# Altium integrated library Silicon Labs Isolation and Power.IntLib: 421 symbols (part 14 of 19)
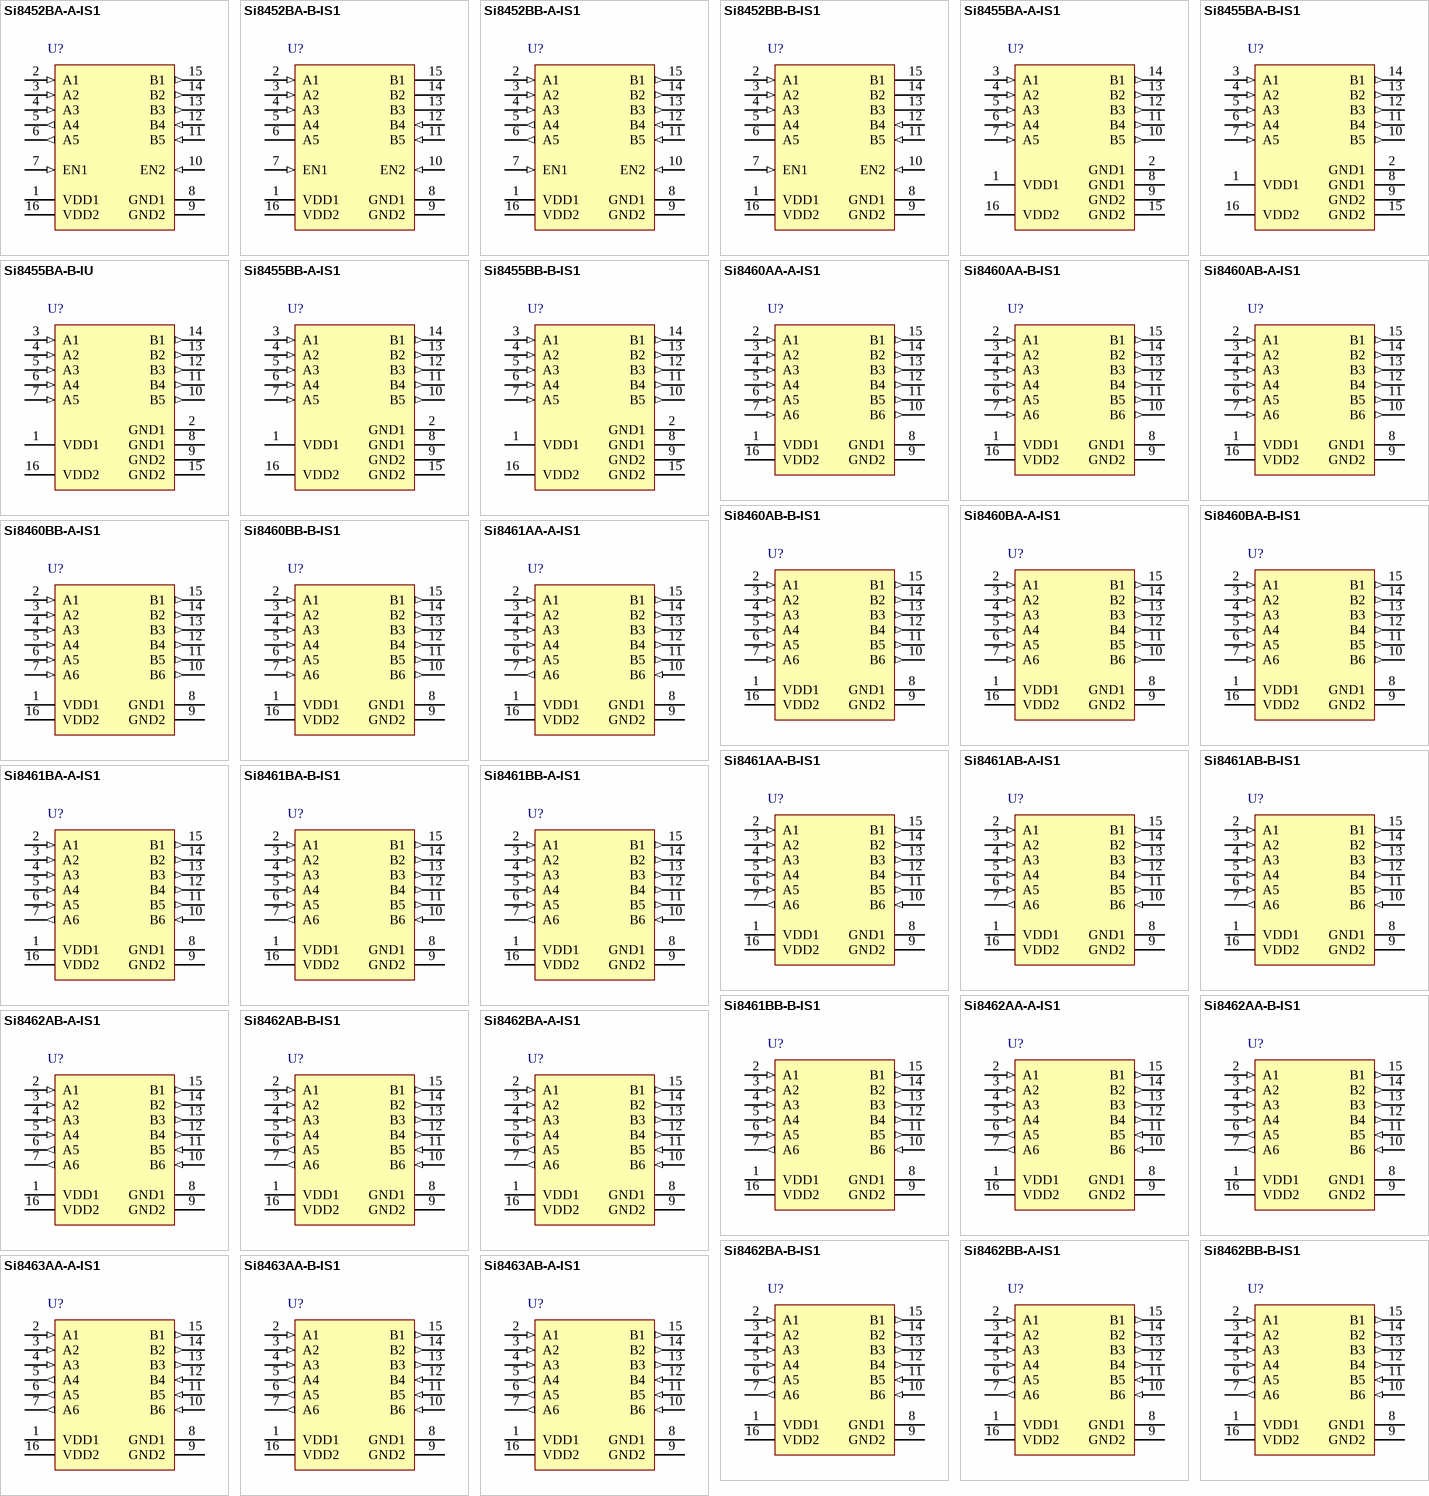
[diagram p27: symbols Si8452BA-A-IS1 to Si8463AB-A-IS1]

## Si8462BA-A-IS1
designator U?
Low Power Six-Channel Digital Isolator, 150 Mbps, 1 kVRMS Isolation Rating, -40 to 125 degC, 16-pin SOIC; Manufacturer: Silicon Labs; PartNumber: Si8462BA-A-IS1; 10kV surge: FALSE; Channel Type: Unidirectional; Isolation Rating (kV): 1; Maximum Data Rate (Mbps): 150; Maximum Propagation Delay (ns): 9.5; Sub-Family: Isolators; DatasheetVersion: Rev. 1.4; PackageReference: SOIC-16-NB; PackageDescription: 16-Pin Small-Outline Integrated Circuit, Body 9.9 x 3.9 mm, Pitch 1.27 mm; Supplier 1: Digi-Key; Supplier Part Number 1: SI8462BA-A-IS1-ND; AEC-Q100: FALSE; Enable Control: FALSE; Mounting Technology: Surface Mount; Code_JEDEC: MS-012; Code_IPC: J-STD-020; ComponentLink1Description: Manufacturer URL; ComponentLink1URL: http://www.silabs.com/; ComponentLink2Description: Datasheet; ComponentLink2URL: http://www.silabs.com/Support%20Documents/TechnicalDocs/Si846x.pdf; ComponentLink3Description: Package Specification; ComponentLink3URL: http://www.silabs.com/Support%20Documents/TechnicalDocs/si2401.pdf
footprint SLAB-SOIC-16-NB_N (SOIC, 16-Leads, Body 9.9x3.9mm, Pitch 1.27mm, IPC Medium Density)
footprint SLAB-SOIC-16-NB_L (SOIC, 16-Leads, Body 9.9x3.9mm, Pitch 1.27mm, IPC High Density)
footprint SLAB-SOIC-16-NB_M (SOIC, 16-Leads, Body 9.9x3.9mm, Pitch 1.27mm, IPC Low Density)
pins: 1 VDD1 (power) "Side 1 power supply.", 2 A1 (in) "Side 1 digital input.", 3 A2 (in) "Side 1 digital input.", 4 A3 (in) "Side 1 digital input.", 5 A4 (in) "Side 1 digital input.", 6 A5 (out) "Side 1 digital output.", 7 A6 (out) "Side 1 digital output.", 8 GND1 (power) "Side 1 ground.", 9 GND2 (power) "Side 2 ground.", 10 B6 (in) "Side 2 digital input.", 11 B5 (in) "Side 2 digital input.", 12 B4 (out) "Side 2 digital output.", 13 B3 (out) "Side 2 digital output.", 14 B2 (out) "Side 2 digital output.", 15 B1 (out) "Side 2 digital output.", 16 VDD2 (power) "Side 2 power supply."

## Si8462BA-B-IS1
designator U?
Low Power Six-Channel Digital Isolator, 150 Mbps, 1 kVRMS Isolation Rating, -40 to 125 degC, 16-pin SOIC; Manufacturer: Silicon Labs; PartNumber: Si8462BA-B-IS1; 10kV surge: FALSE; Channel Type: Unidirectional; Isolation Rating (kV): 1; Maximum Data Rate (Mbps): 150; Maximum Propagation Delay (ns): 9.5; Sub-Family: Isolators; DatasheetVersion: Rev. 1.4; PackageReference: SOIC-16-NB; PackageDescription: 16-Pin Small-Outline Integrated Circuit, Body 9.9 x 3.9 mm, Pitch 1.27 mm; Supplier 1: Digi-Key; Supplier Part Number 1: SI8462BA-B-IS1-ND; Supplier 2: Mouser; Supplier Part Number 2: 634-SI8462BA-B-IS1; AEC-Q100: FALSE; Enable Control: FALSE; Mounting Technology: Surface Mount; Code_JEDEC: MS-012; Code_IPC: J-STD-020; ComponentLink1Description: Manufacturer URL; ComponentLink1URL: http://www.silabs.com/; ComponentLink2Description: Datasheet; ComponentLink2URL: http://www.silabs.com/Support%20Documents/TechnicalDocs/Si846x.pdf; ComponentLink3Description: Package Specification; ComponentLink3URL: http://www.silabs.com/Support%20Documents/TechnicalDocs/si2401.pdf
footprint SLAB-SOIC-16-NB_N (SOIC, 16-Leads, Body 9.9x3.9mm, Pitch 1.27mm, IPC Medium Density)
footprint SLAB-SOIC-16-NB_L (SOIC, 16-Leads, Body 9.9x3.9mm, Pitch 1.27mm, IPC High Density)
footprint SLAB-SOIC-16-NB_M (SOIC, 16-Leads, Body 9.9x3.9mm, Pitch 1.27mm, IPC Low Density)
pins: 1 VDD1 (power) "Side 1 power supply.", 2 A1 (in) "Side 1 digital input.", 3 A2 (in) "Side 1 digital input.", 4 A3 (in) "Side 1 digital input.", 5 A4 (in) "Side 1 digital input.", 6 A5 (out) "Side 1 digital output.", 7 A6 (out) "Side 1 digital output.", 8 GND1 (power) "Side 1 ground.", 9 GND2 (power) "Side 2 ground.", 10 B6 (in) "Side 2 digital input.", 11 B5 (in) "Side 2 digital input.", 12 B4 (out) "Side 2 digital output.", 13 B3 (out) "Side 2 digital output.", 14 B2 (out) "Side 2 digital output.", 15 B1 (out) "Side 2 digital output.", 16 VDD2 (power) "Side 2 power supply."

## Si8462BB-A-IS1
designator U?
Low Power Six-Channel Digital Isolator, 150 Mbps, 2.5 kVRMS Isolation Rating, -40 to 125 degC, 16-pin SOIC; Manufacturer: Silicon Labs; PartNumber: Si8462BB-A-IS1; 10kV surge: FALSE; Channel Type: Unidirectional; Isolation Rating (kV): 2.5; Maximum Data Rate (Mbps): 150; Maximum Propagation Delay (ns): 9.5; Sub-Family: Isolators; DatasheetVersion: Rev. 1.4; PackageReference: SOIC-16-NB; PackageDescription: 16-Pin Small-Outline Integrated Circuit, Body 9.9 x 3.9 mm, Pitch 1.27 mm; Supplier 1: Digi-Key; Supplier Part Number 1: SI8462BB-A-IS1-ND; AEC-Q100: FALSE; Enable Control: FALSE; Mounting Technology: Surface Mount; Code_JEDEC: MS-012; Code_IPC: J-STD-020; ComponentLink1Description: Manufacturer URL; ComponentLink1URL: http://www.silabs.com/; ComponentLink2Description: Datasheet; ComponentLink2URL: http://www.silabs.com/Support%20Documents/TechnicalDocs/Si846x.pdf; ComponentLink3Description: Package Specification; ComponentLink3URL: http://www.silabs.com/Support%20Documents/TechnicalDocs/si2401.pdf
footprint SLAB-SOIC-16-NB_N (SOIC, 16-Leads, Body 9.9x3.9mm, Pitch 1.27mm, IPC Medium Density)
footprint SLAB-SOIC-16-NB_L (SOIC, 16-Leads, Body 9.9x3.9mm, Pitch 1.27mm, IPC High Density)
footprint SLAB-SOIC-16-NB_M (SOIC, 16-Leads, Body 9.9x3.9mm, Pitch 1.27mm, IPC Low Density)
pins: 1 VDD1 (power) "Side 1 power supply.", 2 A1 (in) "Side 1 digital input.", 3 A2 (in) "Side 1 digital input.", 4 A3 (in) "Side 1 digital input.", 5 A4 (in) "Side 1 digital input.", 6 A5 (out) "Side 1 digital output.", 7 A6 (out) "Side 1 digital output.", 8 GND1 (power) "Side 1 ground.", 9 GND2 (power) "Side 2 ground.", 10 B6 (in) "Side 2 digital input.", 11 B5 (in) "Side 2 digital input.", 12 B4 (out) "Side 2 digital output.", 13 B3 (out) "Side 2 digital output.", 14 B2 (out) "Side 2 digital output.", 15 B1 (out) "Side 2 digital output.", 16 VDD2 (power) "Side 2 power supply."

## Si8462BB-B-IS1
designator U?
Low Power Six-Channel Digital Isolator, 150 Mbps, 2.5 kVRMS Isolation Rating, -40 to 125 degC, 16-pin SOIC; Manufacturer: Silicon Labs; PartNumber: Si8462BB-B-IS1; 10kV surge: FALSE; Channel Type: Unidirectional; Isolation Rating (kV): 2.5; Maximum Data Rate (Mbps): 150; Maximum Propagation Delay (ns): 9.5; Sub-Family: Isolators; DatasheetVersion: Rev. 1.4; PackageReference: SOIC-16-NB; PackageDescription: 16-Pin Small-Outline Integrated Circuit, Body 9.9 x 3.9 mm, Pitch 1.27 mm; Supplier 1: Digi-Key; Supplier Part Number 1: SI8462BB-B-IS1-ND; Supplier 2: Mouser; Supplier Part Number 2: 634-SI8462BB-B-IS1; AEC-Q100: FALSE; Enable Control: FALSE; Mounting Technology: Surface Mount; Code_JEDEC: MS-012; Code_IPC: J-STD-020; ComponentLink1Description: Manufacturer URL; ComponentLink1URL: http://www.silabs.com/; ComponentLink2Description: Datasheet; ComponentLink2URL: http://www.silabs.com/Support%20Documents/TechnicalDocs/Si846x.pdf; ComponentLink3Description: Package Specification; ComponentLink3URL: http://www.silabs.com/Support%20Documents/TechnicalDocs/si2401.pdf
footprint SLAB-SOIC-16-NB_N (SOIC, 16-Leads, Body 9.9x3.9mm, Pitch 1.27mm, IPC Medium Density)
footprint SLAB-SOIC-16-NB_L (SOIC, 16-Leads, Body 9.9x3.9mm, Pitch 1.27mm, IPC High Density)
footprint SLAB-SOIC-16-NB_M (SOIC, 16-Leads, Body 9.9x3.9mm, Pitch 1.27mm, IPC Low Density)
pins: 1 VDD1 (power) "Side 1 power supply.", 2 A1 (in) "Side 1 digital input.", 3 A2 (in) "Side 1 digital input.", 4 A3 (in) "Side 1 digital input.", 5 A4 (in) "Side 1 digital input.", 6 A5 (out) "Side 1 digital output.", 7 A6 (out) "Side 1 digital output.", 8 GND1 (power) "Side 1 ground.", 9 GND2 (power) "Side 2 ground.", 10 B6 (in) "Side 2 digital input.", 11 B5 (in) "Side 2 digital input.", 12 B4 (out) "Side 2 digital output.", 13 B3 (out) "Side 2 digital output.", 14 B2 (out) "Side 2 digital output.", 15 B1 (out) "Side 2 digital output.", 16 VDD2 (power) "Side 2 power supply."

## Si8463AA-A-IS1
designator U?
Low Power Six-Channel Digital Isolator, 1 Mbps, 1 kVRMS Isolation Rating, -40 to 125 degC, 16-pin SOIC; Manufacturer: Silicon Labs; PartNumber: Si8463AA-A-IS1; 10kV surge: FALSE; Channel Type: Unidirectional; Isolation Rating (kV): 1; Maximum Propagation Delay (ns): 35; Sub-Family: Isolators; DatasheetVersion: Rev. 1.4; PackageReference: SOIC-16-NB; PackageDescription: 16-Pin Small-Outline Integrated Circuit, Body 9.9 x 3.9 mm, Pitch 1.27 mm; Supplier 1: Digi-Key; Supplier Part Number 1: SI8463AA-A-IS1-ND; AEC-Q100: FALSE; Enable Control: FALSE; Maximum Data Rate (Mbps): 1; Mounting Technology: Surface Mount; Code_JEDEC: MS-012; Code_IPC: J-STD-020; ComponentLink1Description: Manufacturer URL; ComponentLink1URL: http://www.silabs.com/; ComponentLink2Description: Datasheet; ComponentLink2URL: http://www.silabs.com/Support%20Documents/TechnicalDocs/Si846x.pdf; ComponentLink3Description: Package Specification; ComponentLink3URL: http://www.silabs.com/Support%20Documents/TechnicalDocs/si2401.pdf
footprint SLAB-SOIC-16-NB_N (SOIC, 16-Leads, Body 9.9x3.9mm, Pitch 1.27mm, IPC Medium Density)
footprint SLAB-SOIC-16-NB_L (SOIC, 16-Leads, Body 9.9x3.9mm, Pitch 1.27mm, IPC High Density)
footprint SLAB-SOIC-16-NB_M (SOIC, 16-Leads, Body 9.9x3.9mm, Pitch 1.27mm, IPC Low Density)
pins: 1 VDD1 (power) "Side 1 power supply.", 2 A1 (in) "Side 1 digital input.", 3 A2 (in) "Side 1 digital input.", 4 A3 (in) "Side 1 digital input.", 5 A4 (out) "Side 1 digital output.", 6 A5 (out) "Side 1 digital output.", 7 A6 (out) "Side 1 digital output.", 8 GND1 (power) "Side 1 ground.", 9 GND2 (power) "Side 2 ground.", 10 B6 (in), 11 B5 (in), 12 B4 (in), 13 B3 (out) "Side 2 digital output.", 14 B2 (out) "Side 2 digital output.", 15 B1 (out) "Side 2 digital output.", 16 VDD2 (power) "Side 2 power supply."

## Si8463AA-B-IS1
designator U?
Low Power Six-Channel Digital Isolator, 1 Mbps, 1 kVRMS Isolation Rating, -40 to 125 degC, 16-pin SOIC; Manufacturer: Silicon Labs; PartNumber: Si8463AA-B-IS1; 10kV surge: FALSE; Channel Type: Unidirectional; Isolation Rating (kV): 1; Maximum Propagation Delay (ns): 35; Sub-Family: Isolators; DatasheetVersion: Rev. 1.4; PackageReference: SOIC-16-NB; PackageDescription: 16-Pin Small-Outline Integrated Circuit, Body 9.9 x 3.9 mm, Pitch 1.27 mm; Supplier 1: Digi-Key; Supplier Part Number 1: SI8463AA-B-IS1-ND; Supplier 2: Mouser; Supplier Part Number 2: 634-SI8463AA-B-IS1; AEC-Q100: FALSE; Enable Control: FALSE; Maximum Data Rate (Mbps): 1; Mounting Technology: Surface Mount; Code_JEDEC: MS-012; Code_IPC: J-STD-020; ComponentLink1Description: Manufacturer URL; ComponentLink1URL: http://www.silabs.com/; ComponentLink2Description: Datasheet; ComponentLink2URL: http://www.silabs.com/Support%20Documents/TechnicalDocs/Si846x.pdf; ComponentLink3Description: Package Specification; ComponentLink3URL: http://www.silabs.com/Support%20Documents/TechnicalDocs/si2401.pdf
footprint SLAB-SOIC-16-NB_N (SOIC, 16-Leads, Body 9.9x3.9mm, Pitch 1.27mm, IPC Medium Density)
footprint SLAB-SOIC-16-NB_L (SOIC, 16-Leads, Body 9.9x3.9mm, Pitch 1.27mm, IPC High Density)
footprint SLAB-SOIC-16-NB_M (SOIC, 16-Leads, Body 9.9x3.9mm, Pitch 1.27mm, IPC Low Density)
pins: 1 VDD1 (power) "Side 1 power supply.", 2 A1 (in) "Side 1 digital input.", 3 A2 (in) "Side 1 digital input.", 4 A3 (in) "Side 1 digital input.", 5 A4 (out) "Side 1 digital output.", 6 A5 (out) "Side 1 digital output.", 7 A6 (out) "Side 1 digital output.", 8 GND1 (power) "Side 1 ground.", 9 GND2 (power) "Side 2 ground.", 10 B6 (in), 11 B5 (in), 12 B4 (in), 13 B3 (out) "Side 2 digital output.", 14 B2 (out) "Side 2 digital output.", 15 B1 (out) "Side 2 digital output.", 16 VDD2 (power) "Side 2 power supply."

## Si8463AB-A-IS1
designator U?
Low Power Six-Channel Digital Isolator, 1 Mbps, 2.5 kVRMS Isolation Rating, -40 to 125 degC, 16-pin SOIC; Manufacturer: Silicon Labs; PartNumber: Si8463AB-A-IS1; 10kV surge: FALSE; Channel Type: Unidirectional; Isolation Rating (kV): 2.5; Maximum Data Rate (Mbps): 1; Maximum Propagation Delay (ns): 35; Sub-Family: Isolators; DatasheetVersion: Rev. 1.4; PackageReference: SOIC-16-NB; PackageDescription: 16-Pin Small-Outline Integrated Circuit, Body 9.9 x 3.9 mm, Pitch 1.27 mm; Supplier 1: Digi-Key; Supplier Part Number 1: SI8463AB-A-IS1-ND; AEC-Q100: FALSE; Enable Control: FALSE; Mounting Technology: Surface Mount; Code_JEDEC: MS-012; Code_IPC: J-STD-020; ComponentLink1Description: Manufacturer URL; ComponentLink1URL: http://www.silabs.com/; ComponentLink2Description: Datasheet; ComponentLink2URL: http://www.silabs.com/Support%20Documents/TechnicalDocs/Si846x.pdf; ComponentLink3Description: Package Specification; ComponentLink3URL: http://www.silabs.com/Support%20Documents/TechnicalDocs/si2401.pdf
footprint SLAB-SOIC-16-NB_N (SOIC, 16-Leads, Body 9.9x3.9mm, Pitch 1.27mm, IPC Medium Density)
footprint SLAB-SOIC-16-NB_L (SOIC, 16-Leads, Body 9.9x3.9mm, Pitch 1.27mm, IPC High Density)
footprint SLAB-SOIC-16-NB_M (SOIC, 16-Leads, Body 9.9x3.9mm, Pitch 1.27mm, IPC Low Density)
pins: 1 VDD1 (power) "Side 1 power supply.", 2 A1 (in) "Side 1 digital input.", 3 A2 (in) "Side 1 digital input.", 4 A3 (in) "Side 1 digital input.", 5 A4 (out) "Side 1 digital output.", 6 A5 (out) "Side 1 digital output.", 7 A6 (out) "Side 1 digital output.", 8 GND1 (power) "Side 1 ground.", 9 GND2 (power) "Side 2 ground.", 10 B6 (in), 11 B5 (in), 12 B4 (in), 13 B3 (out) "Side 2 digital output.", 14 B2 (out) "Side 2 digital output.", 15 B1 (out) "Side 2 digital output.", 16 VDD2 (power) "Side 2 power supply."

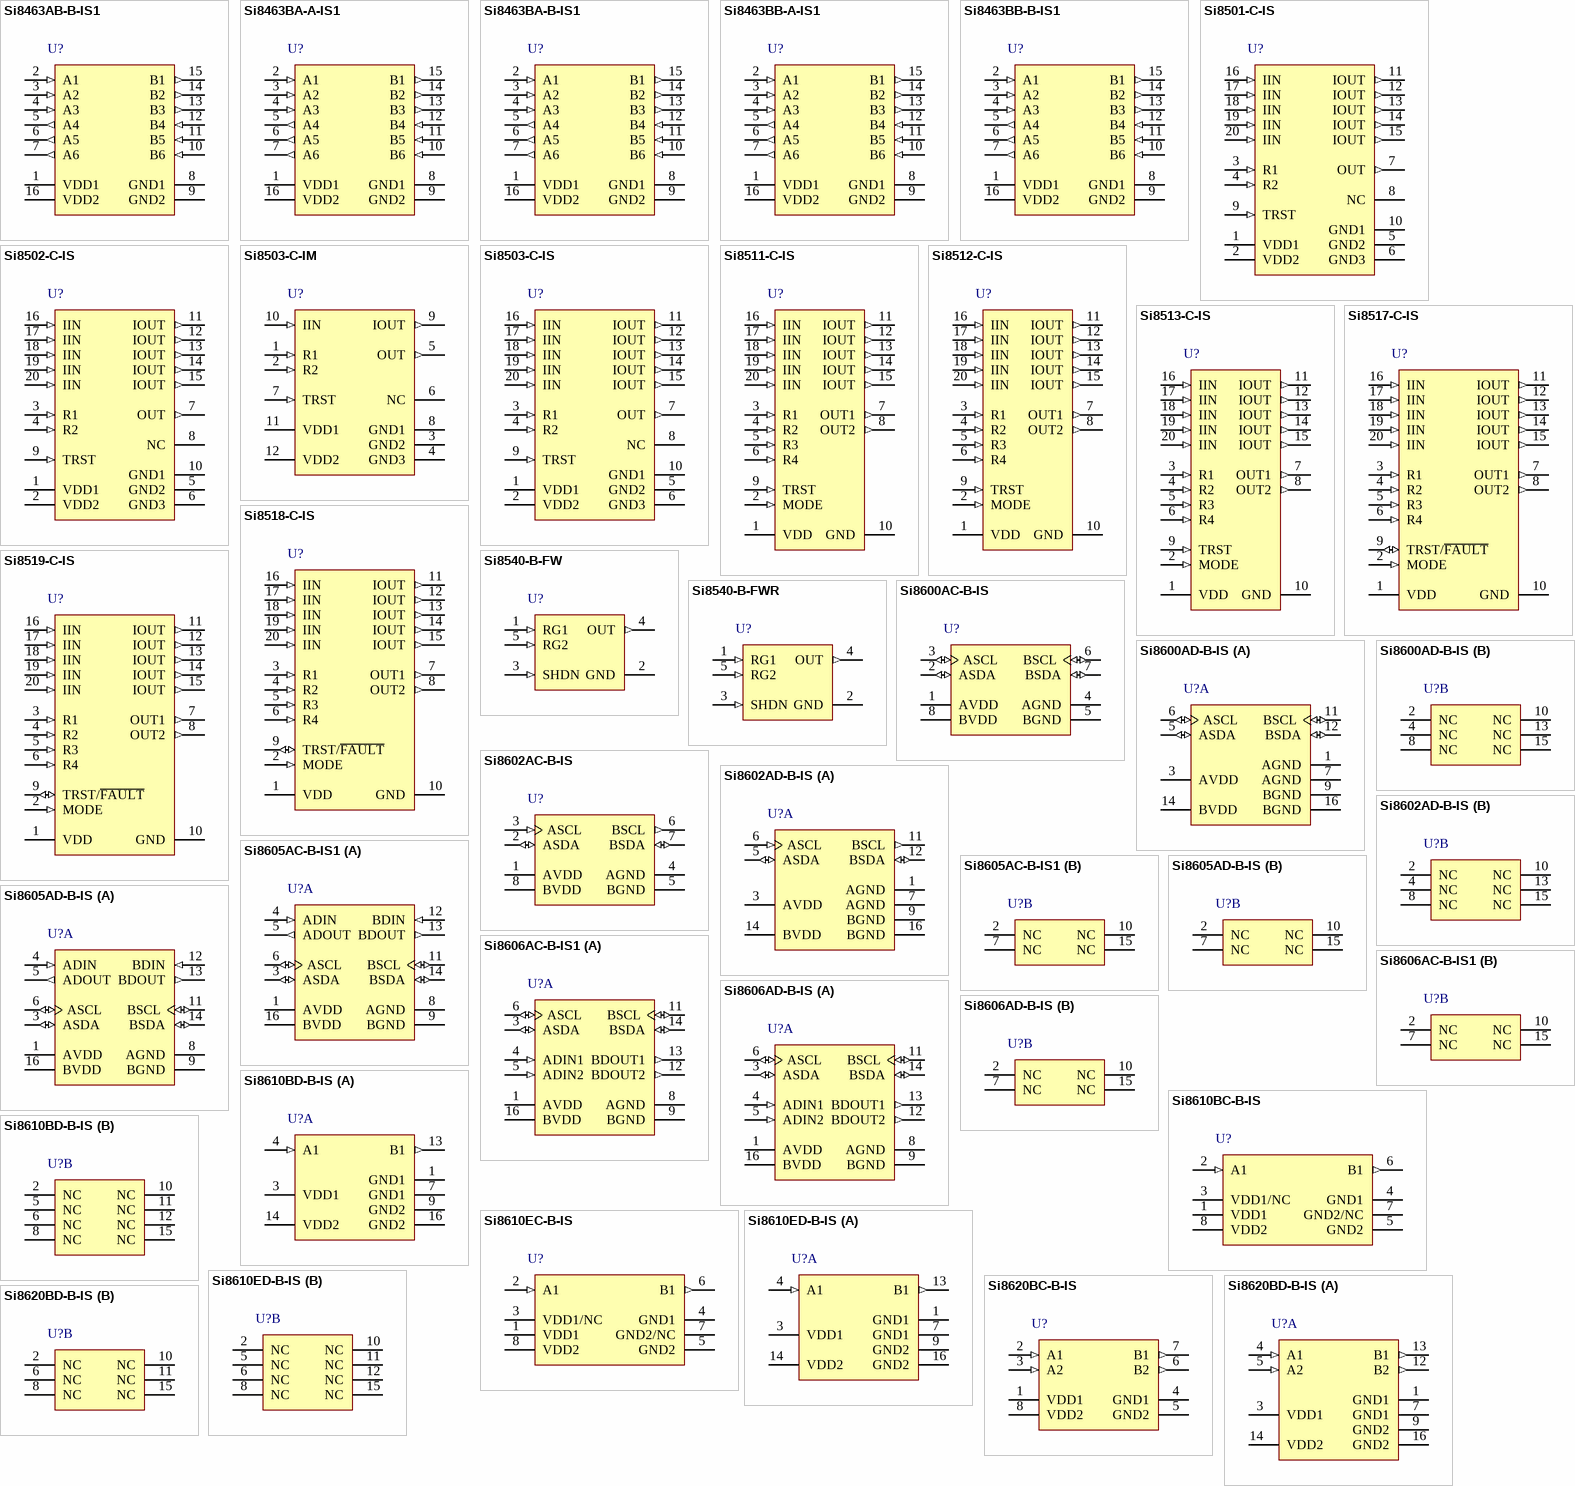
[diagram p10: symbols Si8463AB-B-IS1 to Si8620BD-B-IS]

## Si8463AB-B-IS1
designator U?
Low Power Six-Channel Digital Isolator, 1 Mbps, 2.5 kVRMS Isolation Rating, -40 to 125 degC, 16-pin SOIC; Manufacturer: Silicon Labs; PartNumber: Si8463AB-B-IS1; 10kV surge: FALSE; Channel Type: Unidirectional; Isolation Rating (kV): 2.5; Maximum Data Rate (Mbps): 1; Maximum Propagation Delay (ns): 35; Sub-Family: Isolators; DatasheetVersion: Rev. 1.4; PackageReference: SOIC-16-NB; PackageDescription: 16-Pin Small-Outline Integrated Circuit, Body 9.9 x 3.9 mm, Pitch 1.27 mm; Supplier 1: Digi-Key; Supplier Part Number 1: SI8463AB-B-IS1-ND; Supplier 2: Mouser; Supplier Part Number 2: 634-SI8463AB-B-IS1; AEC-Q100: FALSE; Enable Control: FALSE; Mounting Technology: Surface Mount; Code_JEDEC: MS-012; Code_IPC: J-STD-020; ComponentLink1Description: Manufacturer URL; ComponentLink1URL: http://www.silabs.com/; ComponentLink2Description: Datasheet; ComponentLink2URL: http://www.silabs.com/Support%20Documents/TechnicalDocs/Si846x.pdf; ComponentLink3Description: Package Specification; ComponentLink3URL: http://www.silabs.com/Support%20Documents/TechnicalDocs/si2401.pdf
footprint SLAB-SOIC-16-NB_N (SOIC, 16-Leads, Body 9.9x3.9mm, Pitch 1.27mm, IPC Medium Density)
footprint SLAB-SOIC-16-NB_L (SOIC, 16-Leads, Body 9.9x3.9mm, Pitch 1.27mm, IPC High Density)
footprint SLAB-SOIC-16-NB_M (SOIC, 16-Leads, Body 9.9x3.9mm, Pitch 1.27mm, IPC Low Density)
pins: 1 VDD1 (power) "Side 1 power supply.", 2 A1 (in) "Side 1 digital input.", 3 A2 (in) "Side 1 digital input.", 4 A3 (in) "Side 1 digital input.", 5 A4 (out) "Side 1 digital output.", 6 A5 (out) "Side 1 digital output.", 7 A6 (out) "Side 1 digital output.", 8 GND1 (power) "Side 1 ground.", 9 GND2 (power) "Side 2 ground.", 10 B6 (in), 11 B5 (in), 12 B4 (in), 13 B3 (out) "Side 2 digital output.", 14 B2 (out) "Side 2 digital output.", 15 B1 (out) "Side 2 digital output.", 16 VDD2 (power) "Side 2 power supply."

## Si8463BA-A-IS1
designator U?
Low Power Six-Channel Digital Isolator, 150 Mbps, 1 kVRMS Isolation Rating, -40 to 125 degC, 16-pin SOIC; Manufacturer: Silicon Labs; PartNumber: Si8463BA-A-IS1; 10kV surge: FALSE; Channel Type: Unidirectional; Isolation Rating (kV): 1; Maximum Data Rate (Mbps): 150; Maximum Propagation Delay (ns): 9.5; Sub-Family: Isolators; DatasheetVersion: Rev. 1.4; PackageReference: SOIC-16-NB; PackageDescription: 16-Pin Small-Outline Integrated Circuit, Body 9.9 x 3.9 mm, Pitch 1.27 mm; Supplier 1: Digi-Key; Supplier Part Number 1: SI8463BA-A-IS1-ND; AEC-Q100: FALSE; Enable Control: FALSE; Mounting Technology: Surface Mount; Code_JEDEC: MS-012; Code_IPC: J-STD-020; ComponentLink1Description: Manufacturer URL; ComponentLink1URL: http://www.silabs.com/; ComponentLink2Description: Datasheet; ComponentLink2URL: http://www.silabs.com/Support%20Documents/TechnicalDocs/Si846x.pdf; ComponentLink3Description: Package Specification; ComponentLink3URL: http://www.silabs.com/Support%20Documents/TechnicalDocs/si2401.pdf
footprint SLAB-SOIC-16-NB_N (SOIC, 16-Leads, Body 9.9x3.9mm, Pitch 1.27mm, IPC Medium Density)
footprint SLAB-SOIC-16-NB_L (SOIC, 16-Leads, Body 9.9x3.9mm, Pitch 1.27mm, IPC High Density)
footprint SLAB-SOIC-16-NB_M (SOIC, 16-Leads, Body 9.9x3.9mm, Pitch 1.27mm, IPC Low Density)
pins: 1 VDD1 (power) "Side 1 power supply.", 2 A1 (in) "Side 1 digital input.", 3 A2 (in) "Side 1 digital input.", 4 A3 (in) "Side 1 digital input.", 5 A4 (out) "Side 1 digital output.", 6 A5 (out) "Side 1 digital output.", 7 A6 (out) "Side 1 digital output.", 8 GND1 (power) "Side 1 ground.", 9 GND2 (power) "Side 2 ground.", 10 B6 (in), 11 B5 (in), 12 B4 (in), 13 B3 (out) "Side 2 digital output.", 14 B2 (out) "Side 2 digital output.", 15 B1 (out) "Side 2 digital output.", 16 VDD2 (power) "Side 2 power supply."

## Si8463BA-B-IS1
designator U?
Low Power Six-Channel Digital Isolator, 150 Mbps, 1 kVRMS Isolation Rating, -40 to 125 degC, 16-pin SOIC; Manufacturer: Silicon Labs; PartNumber: Si8463BA-B-IS1; 10kV surge: FALSE; Channel Type: Unidirectional; Isolation Rating (kV): 1; Maximum Data Rate (Mbps): 150; Maximum Propagation Delay (ns): 9.5; Sub-Family: Isolators; DatasheetVersion: Rev. 1.4; PackageReference: SOIC-16-NB; PackageDescription: 16-Pin Small-Outline Integrated Circuit, Body 9.9 x 3.9 mm, Pitch 1.27 mm; Supplier 1: Digi-Key; Supplier Part Number 1: SI8463BA-B-IS1-ND; Supplier 2: Mouser; Supplier Part Number 2: 634-SI8463BA-B-IS1; AEC-Q100: FALSE; Enable Control: FALSE; Mounting Technology: Surface Mount; Code_JEDEC: MS-012; Code_IPC: J-STD-020; ComponentLink1Description: Manufacturer URL; ComponentLink1URL: http://www.silabs.com/; ComponentLink2Description: Datasheet; ComponentLink2URL: http://www.silabs.com/Support%20Documents/TechnicalDocs/Si846x.pdf; ComponentLink3Description: Package Specification; ComponentLink3URL: http://www.silabs.com/Support%20Documents/TechnicalDocs/si2401.pdf
footprint SLAB-SOIC-16-NB_N (SOIC, 16-Leads, Body 9.9x3.9mm, Pitch 1.27mm, IPC Medium Density)
footprint SLAB-SOIC-16-NB_L (SOIC, 16-Leads, Body 9.9x3.9mm, Pitch 1.27mm, IPC High Density)
footprint SLAB-SOIC-16-NB_M (SOIC, 16-Leads, Body 9.9x3.9mm, Pitch 1.27mm, IPC Low Density)
pins: 1 VDD1 (power) "Side 1 power supply.", 2 A1 (in) "Side 1 digital input.", 3 A2 (in) "Side 1 digital input.", 4 A3 (in) "Side 1 digital input.", 5 A4 (out) "Side 1 digital output.", 6 A5 (out) "Side 1 digital output.", 7 A6 (out) "Side 1 digital output.", 8 GND1 (power) "Side 1 ground.", 9 GND2 (power) "Side 2 ground.", 10 B6 (in), 11 B5 (in), 12 B4 (in), 13 B3 (out) "Side 2 digital output.", 14 B2 (out) "Side 2 digital output.", 15 B1 (out) "Side 2 digital output.", 16 VDD2 (power) "Side 2 power supply."

## Si8463BB-A-IS1
designator U?
Low Power Six-Channel Digital Isolator, 150 Mbps, 2.5 kVRMS Isolation Rating, -40 to 125 degC, 16-pin SOIC; Manufacturer: Silicon Labs; PartNumber: Si8463BB-A-IS1; 10kV surge: FALSE; Channel Type: Unidirectional; Isolation Rating (kV): 2.5; Maximum Data Rate (Mbps): 150; Maximum Propagation Delay (ns): 9.5; Sub-Family: Isolators; DatasheetVersion: Rev. 1.4; PackageReference: SOIC-16-NB; PackageDescription: 16-Pin Small-Outline Integrated Circuit, Body 9.9 x 3.9 mm, Pitch 1.27 mm; Supplier 1: Digi-Key; Supplier Part Number 1: SI8463BB-A-IS1-ND; AEC-Q100: FALSE; Enable Control: FALSE; Mounting Technology: Surface Mount; Code_JEDEC: MS-012; Code_IPC: J-STD-020; ComponentLink1Description: Manufacturer URL; ComponentLink1URL: http://www.silabs.com/; ComponentLink2Description: Datasheet; ComponentLink2URL: http://www.silabs.com/Support%20Documents/TechnicalDocs/Si846x.pdf; ComponentLink3Description: Package Specification; ComponentLink3URL: http://www.silabs.com/Support%20Documents/TechnicalDocs/si2401.pdf
footprint SLAB-SOIC-16-NB_N (SOIC, 16-Leads, Body 9.9x3.9mm, Pitch 1.27mm, IPC Medium Density)
footprint SLAB-SOIC-16-NB_L (SOIC, 16-Leads, Body 9.9x3.9mm, Pitch 1.27mm, IPC High Density)
footprint SLAB-SOIC-16-NB_M (SOIC, 16-Leads, Body 9.9x3.9mm, Pitch 1.27mm, IPC Low Density)
pins: 1 VDD1 (power) "Side 1 power supply.", 2 A1 (in) "Side 1 digital input.", 3 A2 (in) "Side 1 digital input.", 4 A3 (in) "Side 1 digital input.", 5 A4 (out) "Side 1 digital output.", 6 A5 (out) "Side 1 digital output.", 7 A6 (out) "Side 1 digital output.", 8 GND1 (power) "Side 1 ground.", 9 GND2 (power) "Side 2 ground.", 10 B6 (in), 11 B5 (in), 12 B4 (in), 13 B3 (out) "Side 2 digital output.", 14 B2 (out) "Side 2 digital output.", 15 B1 (out) "Side 2 digital output.", 16 VDD2 (power) "Side 2 power supply."

## Si8463BB-B-IS1
designator U?
Low Power Six-Channel Digital Isolator, 150 Mbps, 2.5 kVRMS Isolation Rating, -40 to 125 degC, 16-pin SOIC; Manufacturer: Silicon Labs; PartNumber: Si8463BB-B-IS1; 10kV surge: FALSE; Channel Type: Unidirectional; Isolation Rating (kV): 2.5; Maximum Data Rate (Mbps): 150; Maximum Propagation Delay (ns): 9.5; Sub-Family: Isolators; DatasheetVersion: Rev. 1.4; PackageReference: SOIC-16-NB; PackageDescription: 16-Pin Small-Outline Integrated Circuit, Body 9.9 x 3.9 mm, Pitch 1.27 mm; Supplier 1: Digi-Key; Supplier Part Number 1: SI8463BB-B-IS1-ND; Supplier 2: Mouser; Supplier Part Number 2: 634-SI8463BB-B-IS1; AEC-Q100: FALSE; Enable Control: FALSE; Mounting Technology: Surface Mount; Code_JEDEC: MS-012; Code_IPC: J-STD-020; ComponentLink1Description: Manufacturer URL; ComponentLink1URL: http://www.silabs.com/; ComponentLink2Description: Datasheet; ComponentLink2URL: http://www.silabs.com/Support%20Documents/TechnicalDocs/Si846x.pdf; ComponentLink3Description: Package Specification; ComponentLink3URL: http://www.silabs.com/Support%20Documents/TechnicalDocs/si2401.pdf
footprint SLAB-SOIC-16-NB_N (SOIC, 16-Leads, Body 9.9x3.9mm, Pitch 1.27mm, IPC Medium Density)
footprint SLAB-SOIC-16-NB_L (SOIC, 16-Leads, Body 9.9x3.9mm, Pitch 1.27mm, IPC High Density)
footprint SLAB-SOIC-16-NB_M (SOIC, 16-Leads, Body 9.9x3.9mm, Pitch 1.27mm, IPC Low Density)
pins: 1 VDD1 (power) "Side 1 power supply.", 2 A1 (in) "Side 1 digital input.", 3 A2 (in) "Side 1 digital input.", 4 A3 (in) "Side 1 digital input.", 5 A4 (out) "Side 1 digital output.", 6 A5 (out) "Side 1 digital output.", 7 A6 (out) "Side 1 digital output.", 8 GND1 (power) "Side 1 ground.", 9 GND2 (power) "Side 2 ground.", 10 B6 (in), 11 B5 (in), 12 B4 (in), 13 B3 (out) "Side 2 digital output.", 14 B2 (out) "Side 2 digital output.", 15 B1 (out) "Side 2 digital output.", 16 VDD2 (power) "Side 2 power supply."

## Si8501-C-IS
designator U?
Si85xx Unidirectional AC Current Sensor, 5 A Full Scale Current, -40 to 125 degC, 20-pin SOIC; Manufacturer: Silicon Labs; PartNumber: Si8501-C-IS; Full Scale Current: 5 A; Initial Accuracy: 5%; Isolation Rating: 5 kV rms; Output Mode: Single; Sub-Family: Current Sensors; DatasheetVersion: Rev. 0.4; PackageReference: SOIC-20-WB; PackageDescription: 20-Pin Wide Body Plastic Small Outline, Body 12.8 x 7.5 mm, Pitch 1.27 mm; Supplier 1: Digi-Key; Supplier Part Number 1: 336-1721-5-ND; Supplier 2: Mouser; Supplier Part Number 2: 634-SI8501-C-IS; Mounting Technology: Surface Mount; Code_JEDEC: MS-013; ComponentLink1Description: Manufacturer URL; ComponentLink1URL: http://www.silabs.com/; ComponentLink2Description: Datasheet; ComponentLink2URL: http://www.silabs.com/Support Documents/TechnicalDocs/Si85xx.pdf; ComponentLink3Description: Package Specification; ComponentLink3URL: http://www.silabs.com/Support%20Documents/TechnicalDocs/Si85xx.pdf
footprint SLAB-SOIC-20-WB_N (SOIC, 20-Leads, Body 12.8x7.5mm, Pitch 1.27mm, IPC Medium Density)
footprint SLAB-SOIC-20-WB_L (SOIC, 20-Leads, Body 12.8x7.5mm, Pitch 1.27mm, IPC High Density)
footprint SLAB-SOIC-20-WB_M (SOIC, 20-Leads, Body 12.8x7.5mm, Pitch 1.27mm, IPC Low Density)
pins: 1 VDD1 (power) "Power supply input", 2 VDD2 (power) "Power supply input", 3 R1 (in) "Integrator reset input 1", 4 R2 (in) "Integrator reset input 2", 5 GND2 (power) "Ground", 6 GND3 (power) "Ground", 7 OUT (out) "Output", 8 NC "No connect", 9 TRST (in) "Reset time control", 10 GND1 (power) "Ground", 11 IOUT (out) "Current output terminal", 12 IOUT (out) "Current output terminal", 13 IOUT (out) "Current output terminal", 14 IOUT (out) "Current output terminal", 15 IOUT (out) "Current output terminal", 16 IIN (in) "Current input terminal", 17 IIN (in) "Current input terminal", 18 IIN (in) "Current input terminal", 19 IIN (in) "Current input terminal", 20 IIN (in) "Current input terminal"

## Si8502-C-IS
designator U?
Si85xx Unidirectional AC Current Sensor, 10 A Full Scale Current, -40 to 125 degC, 20-pin SOIC; Manufacturer: Silicon Labs; PartNumber: Si8502-C-IS; Full Scale Current: 10 A; Initial Accuracy: 5%; Isolation Rating: 5 kV rms; Output Mode: Single; Sub-Family: Current Sensors; DatasheetVersion: Rev. 0.4; PackageReference: SOIC-20-WB; PackageDescription: 20-Pin Wide Body Plastic Small Outline, Body 12.8 x 7.5 mm, Pitch 1.27 mm; Supplier 1: Digi-Key; Supplier Part Number 1: 336-1722-5-ND; Supplier 2: Mouser; Supplier Part Number 2: 634-SI8502-C-IS; Mounting Technology: Surface Mount; Code_JEDEC: MS-013; ComponentLink1Description: Manufacturer URL; ComponentLink1URL: http://www.silabs.com/; ComponentLink2Description: Datasheet; ComponentLink2URL: http://www.silabs.com/Support Documents/TechnicalDocs/Si85xx.pdf; ComponentLink3Description: Package Specification; ComponentLink3URL: http://www.silabs.com/Support%20Documents/TechnicalDocs/Si85xx.pdf
footprint SLAB-SOIC-20-WB_N (SOIC, 20-Leads, Body 12.8x7.5mm, Pitch 1.27mm, IPC Medium Density)
footprint SLAB-SOIC-20-WB_L (SOIC, 20-Leads, Body 12.8x7.5mm, Pitch 1.27mm, IPC High Density)
footprint SLAB-SOIC-20-WB_M (SOIC, 20-Leads, Body 12.8x7.5mm, Pitch 1.27mm, IPC Low Density)
pins: 1 VDD1 (power) "Power supply input", 2 VDD2 (power) "Power supply input", 3 R1 (in) "Integrator reset input 1", 4 R2 (in) "Integrator reset input 2", 5 GND2 (power) "Ground", 6 GND3 (power) "Ground", 7 OUT (out) "Output", 8 NC "No connect", 9 TRST (in) "Reset time control", 10 GND1 (power) "Ground", 11 IOUT (out) "Current output terminal", 12 IOUT (out) "Current output terminal", 13 IOUT (out) "Current output terminal", 14 IOUT (out) "Current output terminal", 15 IOUT (out) "Current output terminal", 16 IIN (in) "Current input terminal", 17 IIN (in) "Current input terminal", 18 IIN (in) "Current input terminal", 19 IIN (in) "Current input terminal", 20 IIN (in) "Current input terminal"

## Si8503-C-IM
designator U?
Si85xx Unidirectional AC Current Sensor, 20 A Full Scale Current, -40 to 125 degC, 12-pin QFN; Manufacturer: Silicon Labs; PartNumber: Si8503-C-IM; Full Scale Current: 20 A; Initial Accuracy: 5%; Isolation Rating: 1 kV rms; Output Mode: Single; Sub-Family: Current Sensors; DatasheetVersion: Rev. 0.4; PackageReference: QFN-12; PackageDescription: 12-Pin Quad-Flat No-Leads Package, Body 4 x 4 mm, Pitch 0.5 mm; Supplier 1: Digi-Key; Supplier Part Number 1: 336-1720-5-ND; Supplier 2: Mouser; Supplier Part Number 2: 634-SI8503-C-IM; Mounting Technology: Surface Mount; ComponentLink1Description: Manufacturer URL; ComponentLink1URL: http://www.silabs.com/; ComponentLink2Description: Datasheet; ComponentLink2URL: http://www.silabs.com/Support Documents/TechnicalDocs/Si85xx.pdf; ComponentLink3Description: Package Specification; ComponentLink3URL: http://www.silabs.com/Support%20Documents/TechnicalDocs/Si85xx.pdf
footprint SLAB-QFN-12_V (QFN, 12-Leads, Body 4x4mm)
pins: 1 R1 (in) "Integrator reset input 1", 2 R2 (in) "Integrator reset input 2", 3 GND2 (power) "Ground", 4 GND3 (power) "Ground", 5 OUT (out) "Output", 6 NC "No connect", 7 TRST (in) "Reset time control", 8 GND1 (power) "Ground", 9 IOUT (out) "Current output terminal", 10 IIN (in) "Current input terminal", 11 VDD1 (power) "Power supply input", 12 VDD2 (power) "Power supply input"

## Si8503-C-IS
designator U?
Si85xx Unidirectional AC Current Sensor, 20 A Full Scale Current, -40 to 125 degC, 20-pin SOIC; Manufacturer: Silicon Labs; PartNumber: Si8503-C-IS; Full Scale Current: 20 A; Initial Accuracy: 5%; Isolation Rating: 5 kV rms; Output Mode: Single; Sub-Family: Current Sensors; DatasheetVersion: Rev. 0.4; PackageReference: SOIC-20-WB; PackageDescription: 20-Pin Wide Body Plastic Small Outline, Body 12.8 x 7.5 mm, Pitch 1.27 mm; Supplier 1: Digi-Key; Supplier Part Number 1: 336-1723-5-ND; Supplier 2: Mouser; Supplier Part Number 2: 634-SI8503-C-IS; Mounting Technology: Surface Mount; Code_JEDEC: MS-013; ComponentLink1Description: Manufacturer URL; ComponentLink1URL: http://www.silabs.com/; ComponentLink2Description: Datasheet; ComponentLink2URL: http://www.silabs.com/Support Documents/TechnicalDocs/Si85xx.pdf; ComponentLink3Description: Package Specification; ComponentLink3URL: http://www.silabs.com/Support%20Documents/TechnicalDocs/Si85xx.pdf
footprint SLAB-SOIC-20-WB_N (SOIC, 20-Leads, Body 12.8x7.5mm, Pitch 1.27mm, IPC Medium Density)
footprint SLAB-SOIC-20-WB_L (SOIC, 20-Leads, Body 12.8x7.5mm, Pitch 1.27mm, IPC High Density)
footprint SLAB-SOIC-20-WB_M (SOIC, 20-Leads, Body 12.8x7.5mm, Pitch 1.27mm, IPC Low Density)
pins: 1 VDD1 (power) "Power supply input", 2 VDD2 (power) "Power supply input", 3 R1 (in) "Integrator reset input 1", 4 R2 (in) "Integrator reset input 2", 5 GND2 (power) "Ground", 6 GND3 (power) "Ground", 7 OUT (out) "Output", 8 NC "No connect", 9 TRST (in) "Reset time control", 10 GND1 (power) "Ground", 11 IOUT (out) "Current output terminal", 12 IOUT (out) "Current output terminal", 13 IOUT (out) "Current output terminal", 14 IOUT (out) "Current output terminal", 15 IOUT (out) "Current output terminal", 16 IIN (in) "Current input terminal", 17 IIN (in) "Current input terminal", 18 IIN (in) "Current input terminal", 19 IIN (in) "Current input terminal", 20 IIN (in) "Current input terminal"

## Si8511-C-IS
designator U?
Si85xx Unidirectional AC Current Sensor, 5 A Full Scale Current, -40 to 125 degC, 20-pin SOIC; Manufacturer: Silicon Labs; PartNumber: Si8511-C-IS; Full Scale Current: 5 A; Initial Accuracy: 5%; Isolation Rating: 5 kV rms; Output Mode: Ping-Pong; Sub-Family: Current Sensors; DatasheetVersion: Rev. 0.4; PackageReference: SOIC-20-WB; PackageDescription: 20-Pin Wide Body Plastic Small Outline, Body 12.8 x 7.5 mm, Pitch 1.27 mm; Supplier 1: Digi-Key; Supplier Part Number 1: 336-1727-5-ND; Supplier 2: Mouser; Supplier Part Number 2: 634-SI8511-C-IS; Mounting Technology: Surface Mount; Code_JEDEC: MS-013; ComponentLink1Description: Manufacturer URL; ComponentLink1URL: http://www.silabs.com/; ComponentLink2Description: Datasheet; ComponentLink2URL: http://www.silabs.com/Support Documents/TechnicalDocs/Si85xx.pdf; ComponentLink3Description: Package Specification; ComponentLink3URL: http://www.silabs.com/Support%20Documents/TechnicalDocs/Si85xx.pdf
footprint SLAB-SOIC-20-WB_N (SOIC, 20-Leads, Body 12.8x7.5mm, Pitch 1.27mm, IPC Medium Density)
footprint SLAB-SOIC-20-WB_L (SOIC, 20-Leads, Body 12.8x7.5mm, Pitch 1.27mm, IPC High Density)
footprint SLAB-SOIC-20-WB_M (SOIC, 20-Leads, Body 12.8x7.5mm, Pitch 1.27mm, IPC Low Density)
pins: 1 VDD (power) "Power supply input", 2 MODE (in) "Mode control input", 3 R1 (in) "Integrator reset input 1", 4 R2 (in) "Integrator reset input 2", 5 R3 (in) "Integrator reset input 3", 6 R4 (in) "Integrator reset input 4", 7 OUT1 (out) "Output in single-ended output mode, or one of two outputs in Ping-Pong mode.", 8 OUT2 (out) "Second of two Ping-Pong mode outputs", 9 TRST (in) "Reset time control", 10 GND (power) "Ground", 11 IOUT (out) "Current output terminal", 12 IOUT (out) "Current output terminal", 13 IOUT (out) "Current output terminal", 14 IOUT (out) "Current output terminal", 15 IOUT (out) "Current output terminal", 16 IIN (in) "Current input terminal", 17 IIN (in) "Current input terminal", 18 IIN (in) "Current input terminal", 19 IIN (in) "Current input terminal", 20 IIN (in) "Current input terminal"

## Si8512-C-IS
designator U?
Si85xx Unidirectional AC Current Sensor, 10 A Full Scale Current, -40 to 125 degC, 20-pin SOIC; Manufacturer: Silicon Labs; PartNumber: Si8512-C-IS; Full Scale Current: 10 A; Initial Accuracy: 5%; Isolation Rating: 5 kV rms; Output Mode: Ping-Pong; Sub-Family: Current Sensors; DatasheetVersion: Rev. 0.4; PackageReference: SOIC-20-WB; PackageDescription: 20-Pin Wide Body Plastic Small Outline, Body 12.8 x 7.5 mm, Pitch 1.27 mm; Supplier 1: Digi-Key; Supplier Part Number 1: 336-1728-5-ND; Supplier 2: Mouser; Supplier Part Number 2: 634-SI8512-C-IS; Mounting Technology: Surface Mount; Code_JEDEC: MS-013; ComponentLink1Description: Manufacturer URL; ComponentLink1URL: http://www.silabs.com/; ComponentLink2Description: Datasheet; ComponentLink2URL: http://www.silabs.com/Support Documents/TechnicalDocs/Si85xx.pdf; ComponentLink3Description: Package Specification; ComponentLink3URL: http://www.silabs.com/Support%20Documents/TechnicalDocs/Si85xx.pdf
footprint SLAB-SOIC-20-WB_N (SOIC, 20-Leads, Body 12.8x7.5mm, Pitch 1.27mm, IPC Medium Density)
footprint SLAB-SOIC-20-WB_L (SOIC, 20-Leads, Body 12.8x7.5mm, Pitch 1.27mm, IPC High Density)
footprint SLAB-SOIC-20-WB_M (SOIC, 20-Leads, Body 12.8x7.5mm, Pitch 1.27mm, IPC Low Density)
pins: 1 VDD (power) "Power supply input", 2 MODE (in) "Mode control input", 3 R1 (in) "Integrator reset input 1", 4 R2 (in) "Integrator reset input 2", 5 R3 (in) "Integrator reset input 3", 6 R4 (in) "Integrator reset input 4", 7 OUT1 (out) "Output in single-ended output mode, or one of two outputs in Ping-Pong mode.", 8 OUT2 (out) "Second of two Ping-Pong mode outputs", 9 TRST (in) "Reset time control", 10 GND (power) "Ground", 11 IOUT (out) "Current output terminal", 12 IOUT (out) "Current output terminal", 13 IOUT (out) "Current output terminal", 14 IOUT (out) "Current output terminal", 15 IOUT (out) "Current output terminal", 16 IIN (in) "Current input terminal", 17 IIN (in) "Current input terminal", 18 IIN (in) "Current input terminal", 19 IIN (in) "Current input terminal", 20 IIN (in) "Current input terminal"

## Si8513-C-IS
designator U?
Si85xx Unidirectional AC Current Sensor, 20 A Full Scale Current, -40 to 125 degC, 20-pin SOIC; Manufacturer: Silicon Labs; PartNumber: Si8513-C-IS; Full Scale Current: 20 A; Initial Accuracy: 5%; Isolation Rating: 5 kV rms; Output Mode: Ping-Pong; Sub-Family: Current Sensors; DatasheetVersion: Rev. 0.4; PackageReference: SOIC-20-WB; PackageDescription: 20-Pin Wide Body Plastic Small Outline, Body 12.8 x 7.5 mm, Pitch 1.27 mm; Supplier 1: Digi-Key; Supplier Part Number 1: 336-1729-5-ND; Supplier 2: Mouser; Supplier Part Number 2: 634-SI8513-C-IS; Mounting Technology: Surface Mount; Code_JEDEC: MS-013; ComponentLink1Description: Manufacturer URL; ComponentLink1URL: http://www.silabs.com/; ComponentLink2Description: Datasheet; ComponentLink2URL: http://www.silabs.com/Support Documents/TechnicalDocs/Si85xx.pdf; ComponentLink3Description: Package Specification; ComponentLink3URL: http://www.silabs.com/Support%20Documents/TechnicalDocs/Si85xx.pdf
footprint SLAB-SOIC-20-WB_N (SOIC, 20-Leads, Body 12.8x7.5mm, Pitch 1.27mm, IPC Medium Density)
footprint SLAB-SOIC-20-WB_L (SOIC, 20-Leads, Body 12.8x7.5mm, Pitch 1.27mm, IPC High Density)
footprint SLAB-SOIC-20-WB_M (SOIC, 20-Leads, Body 12.8x7.5mm, Pitch 1.27mm, IPC Low Density)
pins: 1 VDD (power) "Power supply input", 2 MODE (in) "Mode control input", 3 R1 (in) "Integrator reset input 1", 4 R2 (in) "Integrator reset input 2", 5 R3 (in) "Integrator reset input 3", 6 R4 (in) "Integrator reset input 4", 7 OUT1 (out) "Output in single-ended output mode, or one of two outputs in Ping-Pong mode.", 8 OUT2 (out) "Second of two Ping-Pong mode outputs", 9 TRST (in) "Reset time control", 10 GND (power) "Ground", 11 IOUT (out) "Current output terminal", 12 IOUT (out) "Current output terminal", 13 IOUT (out) "Current output terminal", 14 IOUT (out) "Current output terminal", 15 IOUT (out) "Current output terminal", 16 IIN (in) "Current input terminal", 17 IIN (in) "Current input terminal", 18 IIN (in) "Current input terminal", 19 IIN (in) "Current input terminal", 20 IIN (in) "Current input terminal"

## Si8517-C-IS
designator U?
Si85xx Unidirectional AC Current Sensor, 5 A Full Scale Current, -40 to 125 degC, 20-pin SOIC; Manufacturer: Silicon Labs; PartNumber: Si8517-C-IS; Full Scale Current: 5 A; Initial Accuracy: 5%; Isolation Rating: 5 kV rms; Output Mode: Ping-Pong; Sub-Family: Current Sensors; DatasheetVersion: Rev. 0.4; PackageReference: SOIC-20-WB; PackageDescription: 20-Pin Wide Body Plastic Small Outline, Body 12.8 x 7.5 mm, Pitch 1.27 mm; Supplier 1: Digi-Key; Supplier Part Number 1: 336-1733-5-ND; Supplier 2: Mouser; Supplier Part Number 2: 634-SI8517-C-IS; Mounting Technology: Surface Mount; Code_JEDEC: MS-013; ComponentLink1Description: Manufacturer URL; ComponentLink1URL: http://www.silabs.com/; ComponentLink2Description: Datasheet; ComponentLink2URL: http://www.silabs.com/Support Documents/TechnicalDocs/Si85xx.pdf; ComponentLink3Description: Package Specification; ComponentLink3URL: http://www.silabs.com/Support%20Documents/TechnicalDocs/Si85xx.pdf
footprint SLAB-SOIC-20-WB_N (SOIC, 20-Leads, Body 12.8x7.5mm, Pitch 1.27mm, IPC Medium Density)
footprint SLAB-SOIC-20-WB_L (SOIC, 20-Leads, Body 12.8x7.5mm, Pitch 1.27mm, IPC High Density)
footprint SLAB-SOIC-20-WB_M (SOIC, 20-Leads, Body 12.8x7.5mm, Pitch 1.27mm, IPC Low Density)
pins: 1 VDD (power) "Power supply input", 2 MODE (in) "Mode control input", 3 R1 (in) "Integrator reset input 1", 4 R2 (in) "Integrator reset input 2", 5 R3 (in) "Integrator reset input 3", 6 R4 (in) "Integrator reset input 4", 7 OUT1 (out) "Output in single-ended output mode, or one of two outputs in Ping-Pong mode.", 8 OUT2 (out) "Second of two Ping-Pong mode outputs", 9 TRST/~{FAULT} (io), 10 GND (power) "Ground", 11 IOUT (out) "Current output terminal", 12 IOUT (out) "Current output terminal", 13 IOUT (out) "Current output terminal", 14 IOUT (out) "Current output terminal", 15 IOUT (out) "Current output terminal", 16 IIN (in) "Current input terminal", 17 IIN (in) "Current input terminal", 18 IIN (in) "Current input terminal", 19 IIN (in) "Current input terminal", 20 IIN (in) "Current input terminal"

## Si8518-C-IS
designator U?
Si85xx Unidirectional AC Current Sensor, 10 A Full Scale Current, -40 to 125 degC, 20-pin SOIC; Manufacturer: Silicon Labs; PartNumber: Si8518-C-IS; Full Scale Current: 10 A; Initial Accuracy: 5%; Isolation Rating: 5 kV rms; Output Mode: Ping-Pong; Sub-Family: Current Sensors; DatasheetVersion: Rev. 0.4; PackageReference: SOIC-20-WB; PackageDescription: 20-Pin Wide Body Plastic Small Outline, Body 12.8 x 7.5 mm, Pitch 1.27 mm; Supplier 1: Digi-Key; Supplier Part Number 1: 336-1734-5-ND; Supplier 2: Mouser; Supplier Part Number 2: 634-SI8518-C-IS; Mounting Technology: Surface Mount; Code_JEDEC: MS-013; ComponentLink1Description: Manufacturer URL; ComponentLink1URL: http://www.silabs.com/; ComponentLink2Description: Datasheet; ComponentLink2URL: http://www.silabs.com/Support Documents/TechnicalDocs/Si85xx.pdf; ComponentLink3Description: Package Specification; ComponentLink3URL: http://www.silabs.com/Support%20Documents/TechnicalDocs/Si85xx.pdf
footprint SLAB-SOIC-20-WB_N (SOIC, 20-Leads, Body 12.8x7.5mm, Pitch 1.27mm, IPC Medium Density)
footprint SLAB-SOIC-20-WB_L (SOIC, 20-Leads, Body 12.8x7.5mm, Pitch 1.27mm, IPC High Density)
footprint SLAB-SOIC-20-WB_M (SOIC, 20-Leads, Body 12.8x7.5mm, Pitch 1.27mm, IPC Low Density)
pins: 1 VDD (power) "Power supply input", 2 MODE (in) "Mode control input", 3 R1 (in) "Integrator reset input 1", 4 R2 (in) "Integrator reset input 2", 5 R3 (in) "Integrator reset input 3", 6 R4 (in) "Integrator reset input 4", 7 OUT1 (out) "Output in single-ended output mode, or one of two outputs in Ping-Pong mode.", 8 OUT2 (out) "Second of two Ping-Pong mode outputs", 9 TRST/~{FAULT} (io), 10 GND (power) "Ground", 11 IOUT (out) "Current output terminal", 12 IOUT (out) "Current output terminal", 13 IOUT (out) "Current output terminal", 14 IOUT (out) "Current output terminal", 15 IOUT (out) "Current output terminal", 16 IIN (in) "Current input terminal", 17 IIN (in) "Current input terminal", 18 IIN (in) "Current input terminal", 19 IIN (in) "Current input terminal", 20 IIN (in) "Current input terminal"

## Si8519-C-IS
designator U?
Si85xx Unidirectional AC Current Sensor, 20 A Full Scale Current, -40 to 125 degC, 20-pin SOIC; Manufacturer: Silicon Labs; PartNumber: Si8519-C-IS; Full Scale Current: 20 A; Initial Accuracy: 5%; Isolation Rating: 5 kV rms; Output Mode: Ping-Pong; Sub-Family: Current Sensors; DatasheetVersion: Rev. 0.4; PackageReference: SOIC-20-WB; PackageDescription: 20-Pin Wide Body Plastic Small Outline, Body 12.8 x 7.5 mm, Pitch 1.27 mm; Supplier 1: Digi-Key; Supplier Part Number 1: 336-1735-5-ND; Supplier 2: Mouser; Supplier Part Number 2: 634-SI8519-C-IS; Mounting Technology: Surface Mount; Code_JEDEC: MS-013; ComponentLink1Description: Manufacturer URL; ComponentLink1URL: http://www.silabs.com/; ComponentLink2Description: Datasheet; ComponentLink2URL: http://www.silabs.com/Support Documents/TechnicalDocs/Si85xx.pdf; ComponentLink3Description: Package Specification; ComponentLink3URL: http://www.silabs.com/Support%20Documents/TechnicalDocs/Si85xx.pdf
footprint SLAB-SOIC-20-WB_N (SOIC, 20-Leads, Body 12.8x7.5mm, Pitch 1.27mm, IPC Medium Density)
footprint SLAB-SOIC-20-WB_L (SOIC, 20-Leads, Body 12.8x7.5mm, Pitch 1.27mm, IPC High Density)
footprint SLAB-SOIC-20-WB_M (SOIC, 20-Leads, Body 12.8x7.5mm, Pitch 1.27mm, IPC Low Density)
pins: 1 VDD (power) "Power supply input", 2 MODE (in) "Mode control input", 3 R1 (in) "Integrator reset input 1", 4 R2 (in) "Integrator reset input 2", 5 R3 (in) "Integrator reset input 3", 6 R4 (in) "Integrator reset input 4", 7 OUT1 (out) "Output in single-ended output mode, or one of two outputs in Ping-Pong mode.", 8 OUT2 (out) "Second of two Ping-Pong mode outputs", 9 TRST/~{FAULT} (io), 10 GND (power) "Ground", 11 IOUT (out) "Current output terminal", 12 IOUT (out) "Current output terminal", 13 IOUT (out) "Current output terminal", 14 IOUT (out) "Current output terminal", 15 IOUT (out) "Current output terminal", 16 IIN (in) "Current input terminal", 17 IIN (in) "Current input terminal", 18 IIN (in) "Current input terminal", 19 IIN (in) "Current input terminal", 20 IIN (in) "Current input terminal"

## Si8540-B-FW
designator U?
High-Side Current Sense Amplifier, 0.1 to 10 A Full Scale Current, -40 to 85 degC, 5-pin SOT23; Manufacturer: Silicon Labs; PartNumber: Si8540-B-FW; Full Scale Current: 0.1 - 10 A; Initial Accuracy: 0.2%; Sub-Family: Current Sensors; DatasheetVersion: Rev. 1.2; PackageReference: SOT-23; PackageDescription: 5-Pin Plastic SOT-23, Body 2.9 x 1.6 mm, Pitch 0.95 mm; Supplier 1: Digi-Key; Supplier Part Number 1: SI8540-B-FW-ND; Supplier 2: Mouser; Supplier Part Number 2: 634-SI8540-B-FW; Output Mode: Current; Mounting Technology: Surface Mount; Code_JEDEC: MO-178; Code_IPC: J-STD-020D; ComponentLink1Description: Manufacturer URL; ComponentLink1URL: http://www.silabs.com/; ComponentLink2Description: Datasheet; ComponentLink2URL: http://www.silabs.com/Support Documents/TechnicalDocs/Si8540.pdf; ComponentLink3Description: Package Specification; ComponentLink3URL: http://www.silabs.com/Support%20Documents/TechnicalDocs/Si8540.pdf
footprint SLAB-SOT-23_N (SOT23, 5-Leads, Body 2.9x1.6mm, Pitch 0.95mm, IPC Medium Density)
footprint SLAB-SOT-23_L (SOT23, 5-Leads, Body 2.9x1.6mm, Pitch 0.95mm, IPC High Density)
footprint SLAB-SOT-23_M (SOT23, 5-Leads, Body 2.9x1.6mm, Pitch 0.95mm, IPC Low Density)
pins: 1 RG1 (in) "Power-side input.", 2 GND (power) "Ground.", 3 SHDN (in) "Shutdown input. Ground for normal operation. High voltage for shutdown", 4 OUT (out) "Current output.", 5 RG2 (in) "Load-side input."

## Si8540-B-FWR
designator U?
High-Side Current Sense Amplifier, 0.1 to 10 A Full Scale Current, -40 to 85 degC, 5-pin SOT23, Tape and Reel; Manufacturer: Silicon Labs; PartNumber: Si8540-B-FWR; Full Scale Current: 0.1 - 10 A; Initial Accuracy: 0.2%; Sub-Family: Current Sensors; DatasheetVersion: Rev. 1.2; PackageReference: SOT-23; PackageDescription: 5-Pin Plastic SOT-23, Body 2.9 x 1.6 mm, Pitch 0.95 mm; Supplier 1: Digi-Key; Supplier Part Number 1: SI8540-B-FWR-ND; Supplier 2: Mouser; Supplier Part Number 2: 634-SI8540-B-FWR; Output Mode: Current; Packing: Tape and Reel; Mounting Technology: Surface Mount; Code_JEDEC: MO-178; Code_IPC: J-STD-020D; ComponentLink1Description: Manufacturer URL; ComponentLink1URL: http://www.silabs.com/; ComponentLink2Description: Datasheet; ComponentLink2URL: http://www.silabs.com/Support Documents/TechnicalDocs/Si8540.pdf; ComponentLink3Description: Package Specification; ComponentLink3URL: http://www.silabs.com/Support%20Documents/TechnicalDocs/Si8540.pdf
footprint SLAB-SOT-23_N (SOT23, 5-Leads, Body 2.9x1.6mm, Pitch 0.95mm, IPC Medium Density)
footprint SLAB-SOT-23_L (SOT23, 5-Leads, Body 2.9x1.6mm, Pitch 0.95mm, IPC High Density)
footprint SLAB-SOT-23_M (SOT23, 5-Leads, Body 2.9x1.6mm, Pitch 0.95mm, IPC Low Density)
pins: 1 RG1 (in) "Power-side input.", 2 GND (power) "Ground.", 3 SHDN (in) "Shutdown input. Ground for normal operation. High voltage for shutdown", 4 OUT (out) "Current output.", 5 RG2 (in) "Load-side input."

## Si8600AC-B-IS
designator U?
Bidirectional I2C Isolator with Unidirectional Digital Channels, 1.7 Mbps, 3.75 kVRMS Isolation Rating, -40 to 125 degC, 8-pin SOIC; Manufacturer: Silicon Labs; PartNumber: Si8600AC-B-IS; 10kV surge: FALSE; Isolation Rating (kV): 3.75; Maximum Data Rate (Mbps): 1.7; Maximum Propagation Delay (ns): 55; Sub-Family: Isolators; DatasheetVersion: Rev. 1.2; PackageReference: SOIC-8-NB; PackageDescription: 8-Pin Narrow Body Plastic Small Outline, Body 4.9 x 3.9 mm, Pitch 1.27 mm; Supplier 1: Digi-Key; Supplier Part Number 1: 336-2048-5-ND; Supplier 2: Mouser; Supplier Part Number 2: 634-SI8600AC-B-IS; AEC-Q100: FALSE; Channel Type: Bidirectional; Enable Control: FALSE; Mounting Technology: Surface Mount; ComponentLink1Description: Manufacturer URL; ComponentLink1URL: http://www.silabs.com/; ComponentLink2Description: Datasheet; ComponentLink2URL: http://www.silabs.com/Support%20Documents/TechnicalDocs/Si860x.pdf; ComponentLink3Description: Package Specification; ComponentLink3URL: http://www.silabs.com/Support%20Documents/TechnicalDocs/Si8220-21.pdf
footprint SLAB-SOIC-8-NB_N (SOIC, 8-Leads, Body 5x4mm, Pitch 1.27mm, IPC Medium Density)
footprint SLAB-SOIC-8-NB_L (SOIC, 8-Leads, Body 5x4mm, Pitch 1.27mm, IPC High Density)
footprint SLAB-SOIC-8-NB_M (SOIC, 8-Leads, Body 5x4mm, Pitch 1.27mm, IPC Low Density)
pins: 1 AVDD (power) "Side A power supply terminal; connect to a source of 3.0 to 5.5 V.", 2 ASDA (io) "Side A data (open drain) input or output.", 3 ASCL (io) "Side A clock input or output. Open drain I/O for Si8400/01.", 4 AGND (power) "Side A ground terminal.", 5 BGND (power) "Side B ground terminal", 6 BSCL (io) "Side B clock input or output. Open drain I/O for Si8400/01.", 7 BSDA (io) "Side B data (open drain) input or output.", 8 BVDD (power) "Side B power supply terminal; connect to a source of 3.0 to 5.5 V."

## Si8600AD-B-IS
designator U?
Bidirectional I2C Isolator with Unidirectional Digital Channels, 1.7 Mbps, 5 kVRMS Isolation Rating, -40 to 125 degC, 16-pin SOIC; Manufacturer: Silicon Labs; PartNumber: Si8600AD-B-IS; 10kV surge: FALSE; Isolation Rating (kV): 5; Maximum Data Rate (Mbps): 1.7; Maximum Propagation Delay (ns): 55; Sub-Family: Isolators; DatasheetVersion: Rev. 1.2; PackageReference: SOIC-16-WB; PackageDescription: 16-Pin Wide Body Plastic Small Outline, Body 10.3 x 7.5 mm, Pitch 1.27 mm; Supplier 1: Digi-Key; Supplier Part Number 1: 336-2049-5-ND; Supplier 2: Mouser; Supplier Part Number 2: 634-SI8600AD-B-IS; AEC-Q100: FALSE; Channel Type: Bidirectional; Enable Control: FALSE; Mounting Technology: Surface Mount; Code_JEDEC: MS-013; ComponentLink1Description: Manufacturer URL; ComponentLink1URL: http://www.silabs.com/; ComponentLink2Description: Datasheet; ComponentLink2URL: http://www.silabs.com/Support%20Documents/TechnicalDocs/Si860x.pdf; ComponentLink3Description: Package Specification; ComponentLink3URL: https://www.silabs.com/Support%20Documents/TechnicalDocs/Si823x.pdf
footprint SLAB-SOIC-16-WB_N (SOIC, 16-Leads, Body 10.3x7.5mm, Pitch 1.27mm, IPC Medium Density)
footprint SLAB-SOIC-16-WB_L (SOIC, 16-Leads, Body 10.3x7.5mm, Pitch 1.27mm, IPC High Density)
footprint SLAB-SOIC-16-WB_M (SOIC, 16-Leads, Body 10.3x7.5mm, Pitch 1.27mm, IPC Low Density)
part A pins: 1 AGND (power) "Side A Ground Terminal.", 3 AVDD (power) "Side A power supply terminal. Connect to a source of 3.0 to 5.5 V.", 5 ASDA (io) "Side A data open drain input or output.", 6 ASCL (io) "Side A data open drain input or output.", 7 AGND (power) "Side A Ground Terminal.", 9 BGND (power) "Side B Ground Terminal.", 11 BSCL (io) "Side B data open drain input or output.", 12 BSDA (io) "Side B data open drain input or output.", 14 BVDD (power) "Side B power supply terminal. Connect to a source of 3.0 to 5.5 V.", 16 BGND (power) "Side B Ground Terminal."
part B pins: 2 NC "No connection.", 4 NC "No connection.", 8 NC "No connection.", 10 NC "No connection.", 13 NC "No connection.", 15 NC "No connection."